# Altium footprint library G5Q.PcbLib: 1 footprints
Each footprint in its own frame and in the unit in brackets; x right, y up, seen from the top. Pads: shape width x height; smd on the part's side, far side on the other; paste and mask are expansions set on the pad; w line width, h text height; cw(c..) or ccw(c..) is an arc to the next point about the centre after c.
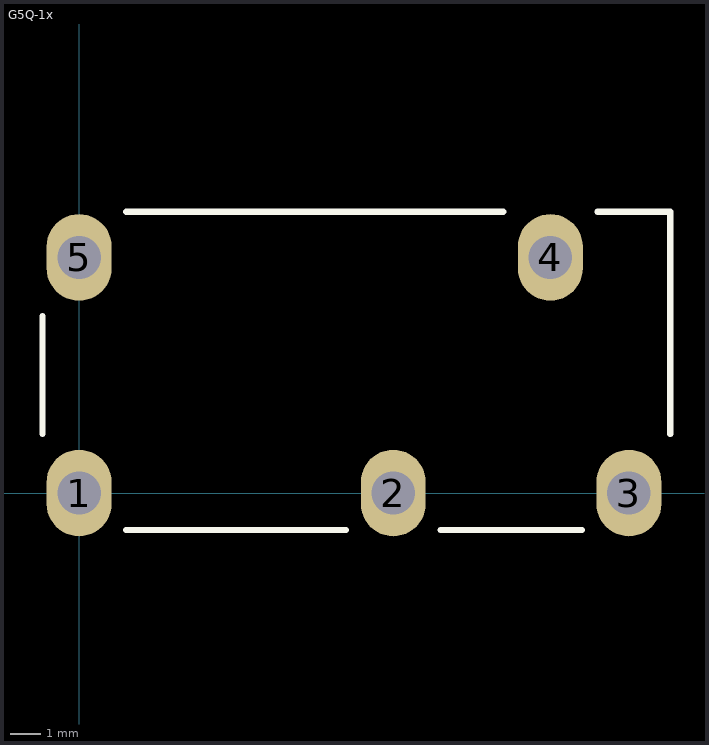
[diagram p0: the footprint, top view; thin cyan lines are the x and y axes]

## G5Q-1x [mm] "Power Relay with 1-pole 10A Switching Capacity."
pads (5):
  oval 2.1x2.8 hole 1.4: 1(0,0) 2(10.16,0) 3(17.78,0) 4(15.24,7.62) 5(0,7.62)
Top Overlay:
  lines w0.2: -1.18,1.905 -1.18,5.715 ; 1.524,-1.19 8.636,-1.19 ; 1.524,9.1 13.716,9.1 ; 11.684,-1.19 16.256,-1.19 ; 16.764,9.095 19.12,9.095 19.12,1.905
3D body: height 15.8, standoff 0, extent -1.168,-1.194 19.126,9.093